# Altium footprint library IC_Texas_Instruments_LP38798SDE-ADJ-NOPB_eec_0.PcbLib: 1 footprints
Each footprint in its own frame and in the unit in brackets; x right, y up, seen from the top. Pads: shape width x height; smd on the part's side, far side on the other; paste and mask are expansions set on the pad; w line width, h text height; cw(c..) or ccw(c..) is an arc to the next point about the centre after c.
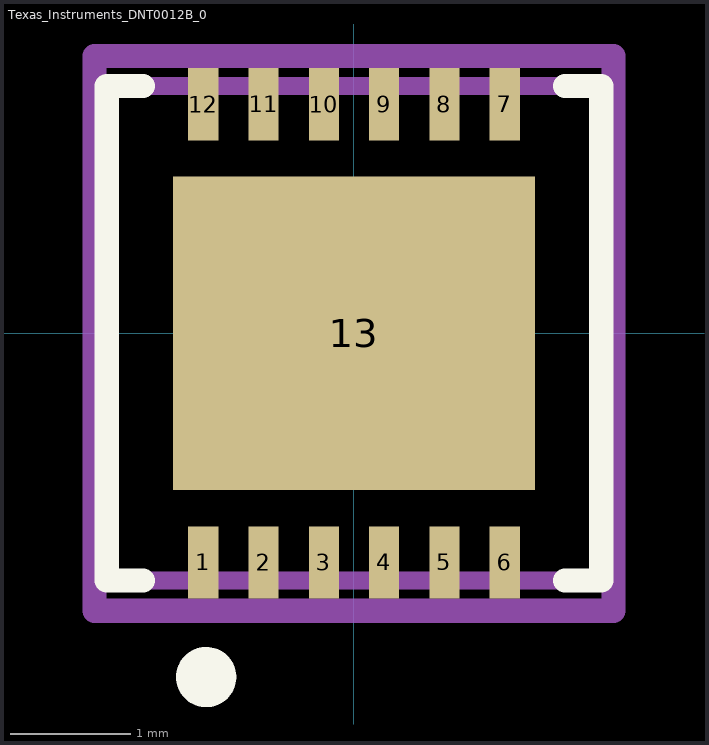
[diagram p0: the footprint, top view; thin cyan lines are the x and y axes]

## Texas_Instruments_DNT0012B_0 [mm]
pads (13):
  rect 0.25x0.6 smd paste+0 mask+0: 1(-1.25,-1.9) 2(-0.75,-1.9) 3(-0.25,-1.9) 4(0.25,-1.9) 5(0.75,-1.9) 6(1.25,-1.9) 7(1.25,1.9) 8(0.75,1.9) 9(0.25,1.9) 10(-0.25,1.9) 11(-0.75,1.9) 12(-1.25,1.9)
  rect 3x2.6 smd paste+0 mask+0: 13(0,0)
Top Overlay:
  circle w0.25: c-1.225,-2.85 r0.125
  lines w0.2: -1.75,-2.05 -2.05,-2.05 -2.05,2.05 -1.75,2.05 ; 1.75,-2.05 2.05,-2.05 2.05,2.05 1.75,2.05
Mechanical 10:
  lines w0.2: -2.15,-2.3 2.15,-2.3 2.15,2.3 -2.15,2.3 -2.15,-2.3
  text ".Designator" at 0,0 h1
Mechanical 12:
  lines w0.15: -2.05,-2.05 2.05,-2.05 2.05,2.05 -2.05,2.05 -2.05,-2.05
Mechanical 15:
  lines w0.1: -0.5,0 0.5,0 ; 0,-0.5 0,0.5
  lines w0.2: -2.15,-2.3 2.15,-2.3 2.15,2.3 -2.15,2.3 -2.15,-2.3
3D body "IC_Texas_Instruments_LP38798SDE-ADJ-NOPB_eec.STEP": height 0.25, standoff 0, extent -2.15,-2.3 2.15,2.3